# Altium integrated library TL3301AF160QG.IntLib: 1 symbol
Pins are listed as number, name and electrical type; pins without a type are passive.

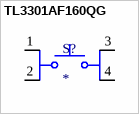
[diagram p0: symbol TL3301AF160QG]

## TL3301AF160QG
designator S?
Tactile Switch SPST-NO Top Actuated Surface Mount; MP: TL3301AF160QG; MF: E-Switch; SnapEDA_Link: https://www.snapeda.com/parts/TL3301AF160QG/E-Switch/view-part/?ref=snap; Package: None; Check_prices: https://www.snapeda.com/parts/TL3301AF160QG/E-Switch/view-part/?ref=eda; Purchase-URL: https://pricing.snapeda.com/search/part/TL3301AF160QG/?ref=eda; Digi-Key_Part_Number: EG2526TR-ND; Value: *
footprint SW_TL3301AF160QG
pins: 1, 2, 3, 4